# Altium schematic symbol library 10E.SchLib: 1 symbol
Pins are listed as number, name and electrical type; pins without a type are passive.

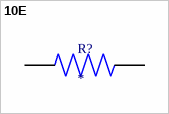
[diagram p0: symbol 10E]

## 10E
designator R?
MP: ERJPA3J100V; Price: None; Package: None; Availability: Unavailable; Value: *
footprint 10E
pins: 1, 2